# EAGLE library part GPS_GNS_2201 (library cvogel)
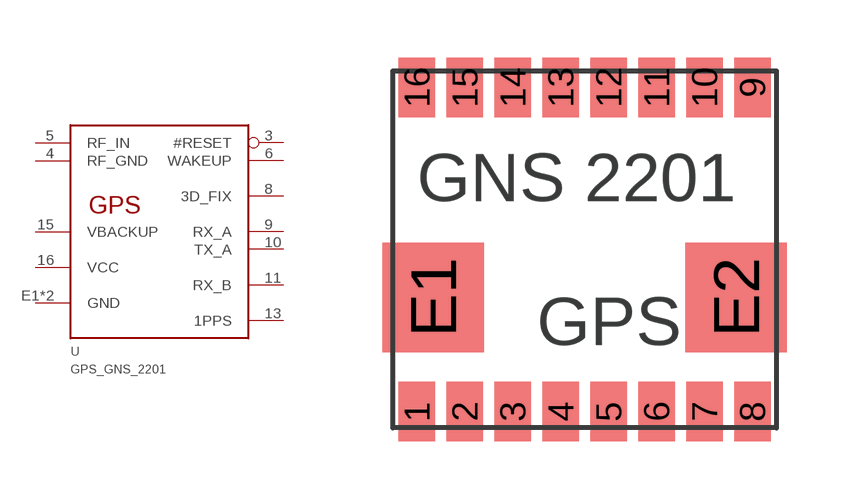
[diagram p12: symbol with the pads of GPS_GNS_2201; footprint GPS_GNS_2201]

Designator prefix U

## GPS_GNS_2201  [GPS_GNS_2201]
3  #RESET  in
4  RF_GND
5  RF_IN
6  WAKEUP  in
8  3D_FIX  out
9  RX_A  in
10  TX_A  out
11  RX_B  in
13  1PPS
15  VBACKUP
16  VCC
E1  GND
E2  GND

## Footprint GPS_GNS_2201 (pad centres in mm)
smd 0.95 x 1.55: 1 -4.375,-4.225; 2 -3.125,-4.225; 3 -1.875,-4.225; 4 -0.625,-4.225; 5 0.625,-4.225; 6 1.875,-4.225; 7 3.125,-4.225; 8 4.375,-4.225; 9 4.375,4.225; 10 3.125,4.225; 11 1.875,4.225; 12 0.625,4.225; 13 -0.625,4.225; 14 -1.875,4.225; 15 -3.125,4.225; 16 -4.375,4.225
smd 2.65 x 2.85: E1 -3.95,-1.25; E2 3.95,-1.25